# EAGLE library part CTS742C163 (library di_ic)
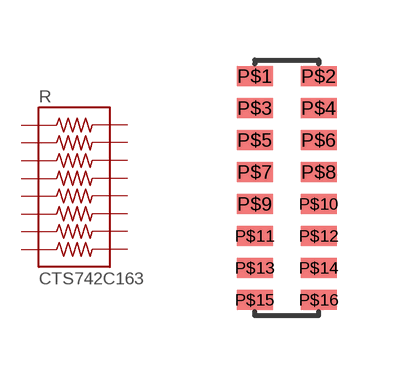
[diagram p7: symbol with the pads of CTS742; footprint CTS742]

Designator prefix R

## CTS742C163  [CTS742]
P$1  1  pas
P$2  2  pas
P$3  3  pas
P$4  4  pas
P$5  5  pas
P$6  6  pas
P$7  7  pas
P$8  8  pas
P$9  9  pas
P$10  10  pas
P$11  11  pas
P$12  12  pas
P$13  13  pas
P$14  14  pas
P$15  15  pas
P$16  16  pas

## Footprint CTS742 (pad centres in mm)
smd 0.9 x 0.5: P$1 -0.8,2.8; P$2 0.8,2.8; P$3 -0.8,2; P$4 0.8,2; P$5 -0.8,1.2; P$6 0.8,1.2; P$7 -0.8,0.4; P$8 0.8,0.4; P$9 -0.8,-0.4; P$10 0.8,-0.4; P$11 -0.8,-1.2; P$12 0.8,-1.2; P$13 -0.8,-2; P$14 0.8,-2; P$15 -0.8,-2.8; P$16 0.8,-2.8